# Altium schematic symbol library STTH4L06.SchLib: 1 symbol
Pins are listed as number, name and electrical type; pins without a type are passive.

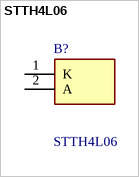
[diagram p0: symbol STTH4L06]

## STTH4L06
designator B?
600 V, 4 A Low Drop Ultrafast Diode; Manufacturer_Name: STMicroelectronics; Mouser Part Number: 511-STTH4L06; Mouser Price/Stock: https://www.mouser.co.uk/ProductDetail/STMicroelectronics/STTH4L06?qs=WSSg0AwdCh5xkbKry%252Bciwg%3D%3D; Manufacturer_Part_Number: STTH4L06; Datasheet Link: https://www.st.com/resource/en/datasheet/stth4l06.pdf
footprint DIOAD3070W130L950D530
pins: 1 K, 2 A